# Altium schematic symbol library GXC1H470MCQ1GS.SchLib: 1 symbol
Pins are listed as number, name and electrical type; pins without a type are passive.

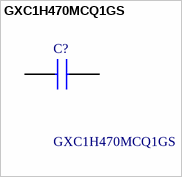
[diagram p0: symbol GXC1H470MCQ1GS]

## GXC1H470MCQ1GS
designator C?
Aluminum Organic Polymer Capacitors 50VDC 47uF 20% AEC-Q200; Manufacturer_Name: Nichicon; Geometry.Height: 10.8mm; Mouser Part Number: 647-GXC1H470MCQ1GS; Mouser Price/Stock: https://www.mouser.co.uk/ProductDetail/Nichicon/GXC1H470MCQ1GS?qs=VVKQmw408U%252BvppM%2F%252BGL6cQ%3D%3D; Manufacturer_Part_Number: GXC1H470MCQ1GS; Datasheet Link: https://www.mouser.fr/datasheet/2/293/e_gxc-3472314.pdf
footprint CAPAE830X1080N
pins: 1 +, 2 -